# Altium integrated library WL-SWTP_rev15a.intlib: 15 symbols
Pins are listed as number, name and electrical type; pins without a type are passive.

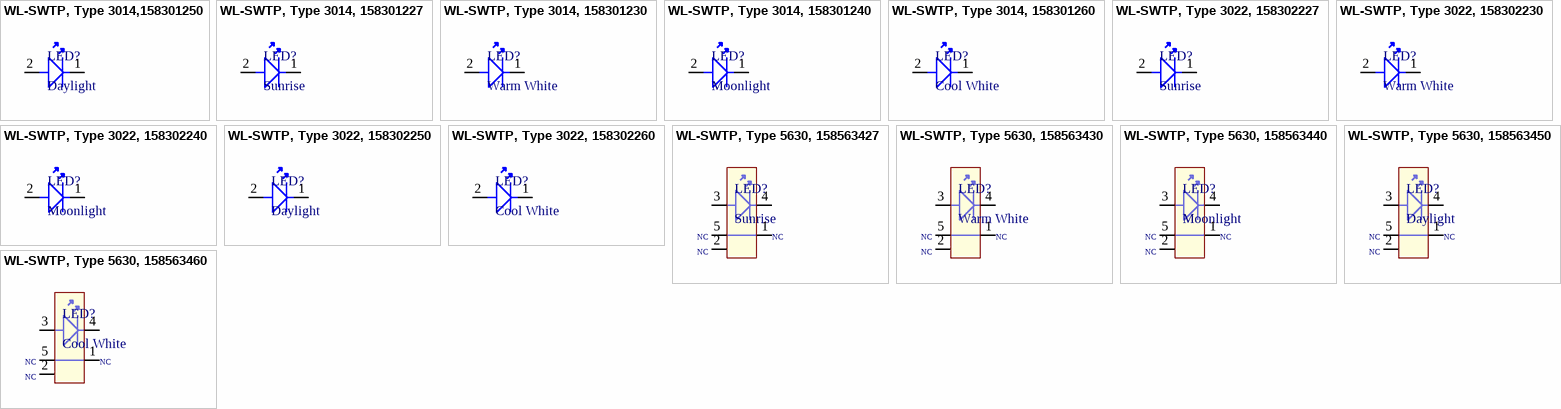
[diagram p0: symbols WL-SWTP, Type 3014,158301250 to WL-SWTP, Type 5630, 158563460]

## WL-SWTP, Type 3014,158301250
designator LED?, comment Daylight
SMD White Top View PLCC LED, WL-SWTP , Daylight; PartNo: 158301250; Manufacturer: Würth Elektronik eiSos GmbH; ComponentLink1Description: Manufacturer; ComponentLink1URL: http://www.we-online.de; Created by: Christin Otto; Created Date: Oct-2014; ComponentLink2Description: Datasheet; ComponentLink2URL: http://katalog.we-online.de/pbs/datasheet/7448042001.pdfhttp://katalog.we-online.de/pbs/datasheet/7448042001.pdfhttp://katalog.we-online.de/pbs/datasheet/7448042001.pdfhttp://katalog.we-online.de/pbs/datasheet/158301250.pdf; Emitting color: Daylight
footprint Type 3014 (SMD-2pin- Body 3mmx1.4mm)
pins: 1 K, 2 A

## WL-SWTP, Type 3014, 158301227
designator LED?, comment Sunrise
SMD White Top View PLCC LED, WL-SWTP , Sunrise; PartNo: 158301227; Manufacturer: Würth Elektronik eiSos GmbH; ComponentLink1Description: Manufacturer; ComponentLink1URL: http://www.we-online.de; Created by: Christin Otto; Created Date: Oct-2014; ComponentLink2Description: Datasheet; ComponentLink2URL: http://katalog.we-online.de/pbs/datasheet/7448042001.pdfhttp://katalog.we-online.de/pbs/datasheet/7448042001.pdfhttp://katalog.we-online.de/pbs/datasheet/7448042001.pdfhttp://katalog.we-online.de/pbs/datasheet/158301227.pdf; Emitting color: Sunrise
footprint Type 3014 (SMD-2pin- Body 3mmx1.4mm)
pins: 1 K, 2 A

## WL-SWTP, Type 3014, 158301230
designator LED?, comment Warm White
SMD White Top View PLCC LED, WL-SWTP , Warm White; PartNo: 158301230; Manufacturer: Würth Elektronik eiSos GmbH; ComponentLink1Description: Manufacturer; ComponentLink1URL: http://www.we-online.de; Created by: Christin Otto; Created Date: Oct-2014; ComponentLink2Description: Datasheet; ComponentLink2URL: http://katalog.we-online.de/pbs/datasheet/7448042001.pdfhttp://katalog.we-online.de/pbs/datasheet/7448042001.pdfhttp://katalog.we-online.de/pbs/datasheet/7448042001.pdfhttp://katalog.we-online.de/pbs/datasheet/158301230.pdf; Emitting color: Warm White
footprint Type 3014 (SMD-2pin- Body 3mmx1.4mm)
pins: 1 K, 2 A

## WL-SWTP, Type 3014, 158301240
designator LED?, comment Moonlight
SMD White Top View PLCC LED, WL-SWTP , Moonlight; PartNo: 158301240; Manufacturer: Würth Elektronik eiSos GmbH; ComponentLink1Description: Manufacturer; ComponentLink1URL: http://www.we-online.de; Created by: Christin Otto; Created Date: Oct-2014; ComponentLink2Description: Datasheet; ComponentLink2URL: http://katalog.we-online.de/pbs/datasheet/7448042001.pdfhttp://katalog.we-online.de/pbs/datasheet/7448042001.pdfhttp://katalog.we-online.de/pbs/datasheet/7448042001.pdfhttp://katalog.we-online.de/pbs/datasheet/158301240.pdf; Emitting color: Moonlight
footprint Type 3014 (SMD-2pin- Body 3mmx1.4mm)
pins: 1 K, 2 A

## WL-SWTP, Type 3014, 158301260
designator LED?, comment Cool White
SMD White Top View PLCC LED, WL-SWTP , Cool White; PartNo: 158301260; Manufacturer: Würth Elektronik eiSos GmbH; ComponentLink1Description: Manufacturer; ComponentLink1URL: http://www.we-online.de; Created by: Christin Otto; Created Date: Oct-2014; ComponentLink2Description: Datasheet; ComponentLink2URL: http://katalog.we-online.de/pbs/datasheet/7448042001.pdfhttp://katalog.we-online.de/pbs/datasheet/7448042001.pdfhttp://katalog.we-online.de/pbs/datasheet/7448042001.pdfhttp://katalog.we-online.de/pbs/datasheet/158301260.pdf; Emitting color: Cool White
footprint Type 3014 (SMD-2pin- Body 3mmx1.4mm)
pins: 1 K, 2 A

## WL-SWTP, Type 3022, 158302227
designator LED?, comment Sunrise
SMD White Top View PLCC LED, WL-SWTP , Sunrise; PartNo: 158302227; Manufacturer: Würth Elektronik eiSos GmbH; ComponentLink1Description: Manufacturer; ComponentLink1URL: http://www.we-online.de; Created by: Christin Otto; Created Date: Oct-2014; ComponentLink2Description: Datasheet; ComponentLink2URL: http://katalog.we-online.de/pbs/datasheet/7448042001.pdfhttp://katalog.we-online.de/pbs/datasheet/7448042001.pdfhttp://katalog.we-online.de/pbs/datasheet/7448042001.pdfhttp://katalog.we-online.de/pbs/datasheet/158302227.pdf; Emitting color: Sunrise
footprint Type 3022 (SMD-2pin- Body 3mmx2.1mm)
pins: 1 K, 2 A

## WL-SWTP, Type 3022, 158302230
designator LED?, comment Warm White
SMD White Top View PLCC LED, WL-SWTP , Warm White; PartNo: 158302230; Manufacturer: Würth Elektronik eiSos GmbH; ComponentLink1Description: Manufacturer; ComponentLink1URL: http://www.we-online.de; Created by: Christin Otto; Created Date: Oct-2014; ComponentLink2Description: Datasheet; ComponentLink2URL: http://katalog.we-online.de/pbs/datasheet/7448042001.pdfhttp://katalog.we-online.de/pbs/datasheet/7448042001.pdfhttp://katalog.we-online.de/pbs/datasheet/7448042001.pdfhttp://katalog.we-online.de/pbs/datasheet/158302230.pdf; Emitting color: Warm White
footprint Type 3022 (SMD-2pin- Body 3mmx2.1mm)
pins: 1 K, 2 A

## WL-SWTP, Type 3022, 158302240
designator LED?, comment Moonlight
SMD White Top View PLCC LED, WL-SWTP , Moonlight; PartNo: 158302240; Manufacturer: Würth Elektronik eiSos GmbH; ComponentLink1Description: Manufacturer; ComponentLink1URL: http://www.we-online.de; Created by: Christin Otto; Created Date: Oct-2014; ComponentLink2Description: Datasheet; ComponentLink2URL: http://katalog.we-online.de/pbs/datasheet/7448042001.pdfhttp://katalog.we-online.de/pbs/datasheet/7448042001.pdfhttp://katalog.we-online.de/pbs/datasheet/7448042001.pdfhttp://katalog.we-online.de/pbs/datasheet/158302240.pdf; Emitting color: Moonlight
footprint Type 3022 (SMD-2pin- Body 3mmx2.1mm)
pins: 1 K, 2 A

## WL-SWTP, Type 3022, 158302250
designator LED?, comment Daylight
SMD White Top View PLCC LED WL-SWTP , Daylight; PartNo: 158302250; Manufacturer: Würth Elektronik eiSos GmbH; ComponentLink1Description: Manufacturer; ComponentLink1URL: http://www.we-online.de; Created by: Christin Otto; Created Date: Oct-2014; ComponentLink2Description: Datasheet; ComponentLink2URL: http://katalog.we-online.de/pbs/datasheet/7448042001.pdfhttp://katalog.we-online.de/pbs/datasheet/7448042001.pdfhttp://katalog.we-online.de/pbs/datasheet/7448042001.pdfhttp://katalog.we-online.de/pbs/datasheet/158302250.pdf; Emitting color: Daylight
footprint Type 3022 (SMD-2pin- Body 3mmx2.1mm)
pins: 1 K, 2 A

## WL-SWTP, Type 3022, 158302260
designator LED?, comment Cool White
SMD White Top View PLCC LED, WL-SWTP , Cool White; PartNo: 158302260; Manufacturer: Würth Elektronik eiSos GmbH; ComponentLink1Description: Manufacturer; ComponentLink1URL: http://www.we-online.de; Created by: Christin Otto; Created Date: Oct-2014; ComponentLink2Description: Datasheet; ComponentLink2URL: http://katalog.we-online.de/pbs/datasheet/7448042001.pdfhttp://katalog.we-online.de/pbs/datasheet/7448042001.pdfhttp://katalog.we-online.de/pbs/datasheet/7448042001.pdfhttp://katalog.we-online.de/pbs/datasheet/158302260.pdf; Emitting color: Cool White
footprint Type 3022 (SMD-2pin- Body 3mmx2.1mm)
pins: 1 K, 2 A

## WL-SWTP, Type 5630, 158563427
designator LED?, comment Sunrise
SMD White Top View PLCC LED, WL-SWTP , Sunrise; PartNo: 158563427; Manufacturer: Würth Elektronik eiSos GmbH; ComponentLink1Description: Manufacturer; ComponentLink1URL: http://www.we-online.de; Created by: Christin Otto; Created Date: Oct-2014; ComponentLink2Description: Datasheet; ComponentLink2URL: http://katalog.we-online.de/pbs/datasheet/7448042001.pdfhttp://katalog.we-online.de/pbs/datasheet/7448042001.pdfhttp://katalog.we-online.de/pbs/datasheet/7448042001.pdfhttp://katalog.we-online.de/pbs/datasheet/158563427.pdf; Emitting color: Sunrise
footprint Type 5630 (SMD-5pin- Body 5.7mmx3mm)
pins: 1 NC, 2 NC, 3 A, 4 K, 5 NC

## WL-SWTP, Type 5630, 158563430
designator LED?, comment Warm White
SMD White Top View PLCC LED, WL-SWTP , Warm White; PartNo: 158563430; Manufacturer: Würth Elektronik eiSos GmbH; ComponentLink1Description: Manufacturer; ComponentLink1URL: http://www.we-online.de; Created by: Christin Otto; Created Date: Oct-2014; ComponentLink2Description: Datasheet; ComponentLink2URL: http://katalog.we-online.de/pbs/datasheet/7448042001.pdfhttp://katalog.we-online.de/pbs/datasheet/7448042001.pdfhttp://katalog.we-online.de/pbs/datasheet/7448042001.pdfhttp://katalog.we-online.de/pbs/datasheet/158563430.pdf; Emitting color: Warm White
footprint Type 5630 (SMD-5pin- Body 5.7mmx3mm)
pins: 1 NC, 2 NC, 3 A, 4 K, 5 NC

## WL-SWTP, Type 5630, 158563440
designator LED?, comment Moonlight
SMD White Top View PLCC LED, WL-SWTP , Moonlight; PartNo: 158563440; Manufacturer: Würth Elektronik eiSos GmbH; ComponentLink1Description: Manufacturer; ComponentLink1URL: http://www.we-online.de; Created by: Christin Otto; Created Date: Oct-2014; ComponentLink2Description: Datasheet; ComponentLink2URL: http://katalog.we-online.de/pbs/datasheet/7448042001.pdfhttp://katalog.we-online.de/pbs/datasheet/7448042001.pdfhttp://katalog.we-online.de/pbs/datasheet/7448042001.pdfhttp://katalog.we-online.de/pbs/datasheet/158563440.pdf; Emitting color: Moonlight
footprint Type 5630 (SMD-5pin- Body 5.7mmx3mm)
pins: 1 NC, 2 NC, 3 A, 4 K, 5 NC

## WL-SWTP, Type 5630, 158563450
designator LED?, comment Daylight
SMD White Top View PLCC LED, WL-SWTP , Daylight; PartNo: 158563450; Manufacturer: Würth Elektronik eiSos GmbH; ComponentLink1Description: Manufacturer; ComponentLink1URL: http://www.we-online.de; Created by: Christin Otto; Created Date: Oct-2014; ComponentLink2Description: Datasheet; ComponentLink2URL: http://katalog.we-online.de/pbs/datasheet/7448042001.pdfhttp://katalog.we-online.de/pbs/datasheet/7448042001.pdfhttp://katalog.we-online.de/pbs/datasheet/7448042001.pdfhttp://katalog.we-online.de/pbs/datasheet/158563450.pdf; Emitting color: Daylight
footprint Type 5630 (SMD-5pin- Body 5.7mmx3mm)
pins: 1 NC, 2 NC, 3 A, 4 K, 5 NC

## WL-SWTP, Type 5630, 158563460
designator LED?, comment Cool White
SMD White Top View PLCC LED, WL-SWTP , Cool White; PartNo: 158563460; Manufacturer: Würth Elektronik eiSos GmbH; ComponentLink1Description: Manufacturer; ComponentLink1URL: http://www.we-online.de; Created by: Christin Otto; Created Date: Oct-2014; ComponentLink2Description: Datasheet; ComponentLink2URL: http://katalog.we-online.de/pbs/datasheet/7448042001.pdfhttp://katalog.we-online.de/pbs/datasheet/7448042001.pdfhttp://katalog.we-online.de/pbs/datasheet/7448042001.pdfhttp://katalog.we-online.de/pbs/datasheet/158563460.pdf; Emitting color: Cool White
footprint Type 5630 (SMD-5pin- Body 5.7mmx3mm)
pins: 1 NC, 2 NC, 3 A, 4 K, 5 NC